# Altium schematic symbol library Solder_Jumper.SchLib: 1 symbol
Pins are listed as number, name and electrical type; pins without a type are passive.

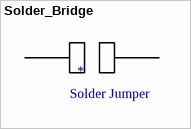
[diagram p0: symbol Solder_Bridge]

## Solder_Bridge
designator *  (value not drawn)
text: Solder Jumper